# Altium footprint library Graphics.PcbLib: 1 footprints
Each footprint in its own frame and in the unit in brackets; x right, y up, seen from the top. Pads: shape width x height; smd on the part's side, far side on the other; paste and mask are expansions set on the pad; w line width, h text height; cw(c..) or ccw(c..) is an arc to the next point about the centre after c.
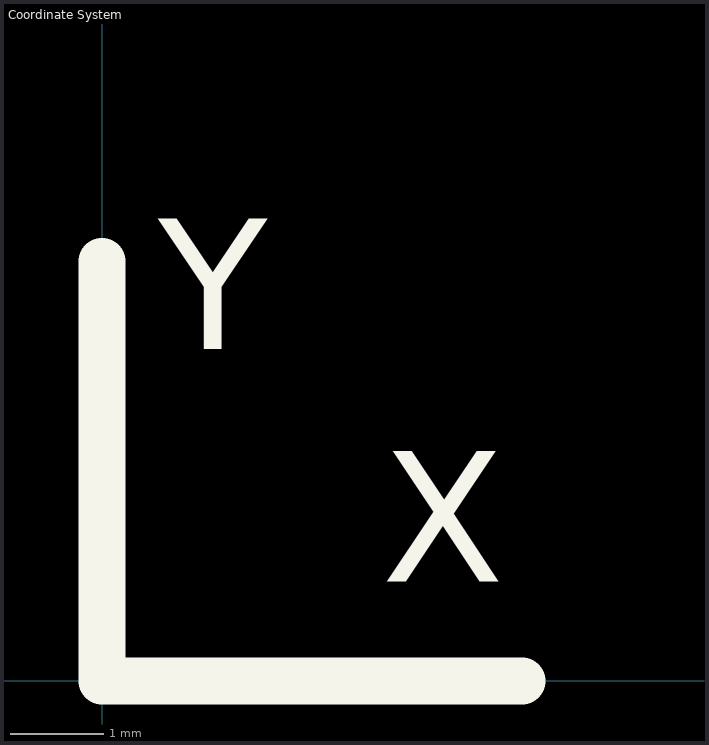
[diagram p0: the footprint, top view; thin cyan lines are the x and y axes]

## Coordinate System [mm]
Top Overlay:
  lines w0.5: 0,4.5 0,0 4.5,0
  text "X" at 3,0.6 h2.4
  text "Y" at 0.6,3.1 h2.4